# Altium schematic symbol library IRLML6344TRPBF.SchLib: 1 symbol
Pins are listed as number, name and electrical type; pins without a type are passive.

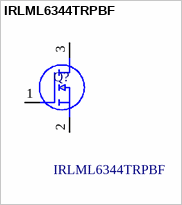
[diagram p0: symbol IRLML6344TRPBF]

## IRLML6344TRPBF
designator Q?
IRLML6344TRPBF N-channel MOSFET Transistor, 5 A, 30 V, 3-Pin SOT-23; Manufacturer_Name: Infineon; Geometry.Height: 1.12mm; Mouser Part Number: 942-IRLML6344TRPBF; Mouser Price/Stock: https://www.mouser.co.uk/ProductDetail/Infineon-Technologies/IRLML6344TRPBF?qs=9%252BKlkBgLFf2w4qS48UOXVw%3D%3D; Manufacturer_Part_Number: IRLML6344TRPBF; Datasheet Link: https://www.infineon.com/dgdl/irlml6344pbf.pdf?fileId=5546d462533600a4015356689c44262c
footprint SOT95P237X112-3N
pins: 1 G, 2 S, 3 D